# Altium schematic symbol library LM358P.SchLib: 1 symbol
Pins are listed as number, name and electrical type; pins without a type are passive.

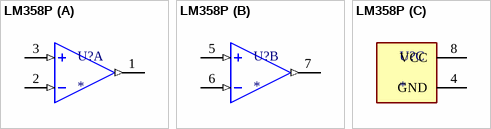
[diagram p0: symbol LM358P]

## LM358P
designator U?
Dual, 30-V, 700-kHz operational amplifier; MP: LM358P; MF: Texas Instruments; SnapEDA_Link: https://www.snapeda.com/parts/LM358P/Texas+Instruments/view-part/?ref=snap; Package: PDIP-8 Texas; Check_prices: https://www.snapeda.com/parts/LM358P/Texas+Instruments/view-part/?ref=eda; Purchase-URL: https://pricing.snapeda.com/search/part/LM358P/?ref=eda; Price: None; Value: *; Availability: In Stock
footprint DIP794W45P254L959H508Q8
part A pins: 1 OUT1 (out), 2 -IN1 (in), 3 +IN1 (in)
part B pins: 5 +IN2 (in), 6 -IN2 (in), 7 OUT2 (out)
part C pins: 4 GND (power), 8 VCC (power)